# Altium schematic symbol library SCH - DRIVER - LED - DIODES INC AL8863.SCHLIB: 1 symbol
Pins are listed as number, name and electrical type; pins without a type are passive.

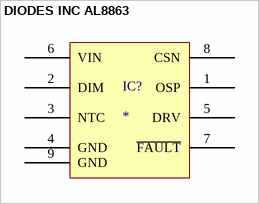
[diagram p0: symbol DIODES INC AL8863]

## DIODES INC AL8863
designator IC?
pins: 1 OSP, 2 DIM, 3 NTC, 4 GND, 5 DRV, 6 VIN, 7 ~{FAULT}, 8 CSN, 9 GND